# EAGLE library part ADG798 (library Analog Devices)
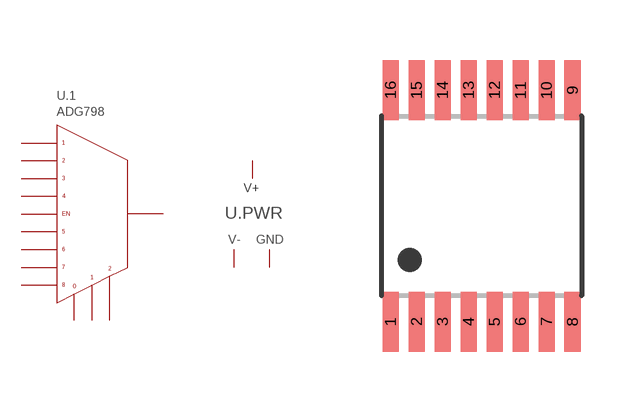
[diagram p46: symbol with the pads of TSSOP16; footprint TSSOP16]

Designator prefix U; gates .1=ADG798 .PWR=ADG798_PWR

## ADG798HRUZ  [TSSOP16]
1  .1:A0  in
2  .1:EN  in
3  .PWR:V-  pwr
4  .1:S1  in
5  .1:S2  in
6  .1:S3  in
7  .1:S4  in
8  .1:D  in
9  .1:S8  in
10  .1:S7  in
11  .1:S6  in
12  .1:S5  in
13  .PWR:V+  pwr
14  .PWR:GND  pwr
15  .1:A2  in
16  .1:A1  in

## Footprint TSSOP16 (pad centres in mm)
smd 0.4 x 1.5: 1 -2.275,-2.9; 2 -1.625,-2.9; 3 -0.975,-2.9; 4 -0.325,-2.9; 5 0.325,-2.9; 6 0.975,-2.9; 7 1.625,-2.9; 8 2.275,-2.9; 9 2.275,2.9; 10 1.625,2.896; 11 0.975,2.896; 12 0.325,2.9; 13 -0.325,2.9; 14 -0.975,2.9; 15 -1.625,2.9; 16 -2.275,2.9